# Altium footprint library 海关全向控制器主控板电路V2.PcbLib: 35 footprints (part 1 of 3)
Each footprint in its own frame and in the unit in brackets; x right, y up, seen from the top. Pads: shape width x height; smd on the part's side, far side on the other; paste and mask are expansions set on the pad; w line width, h text height; cw(c..) or ccw(c..) is an arc to the next point about the centre after c.
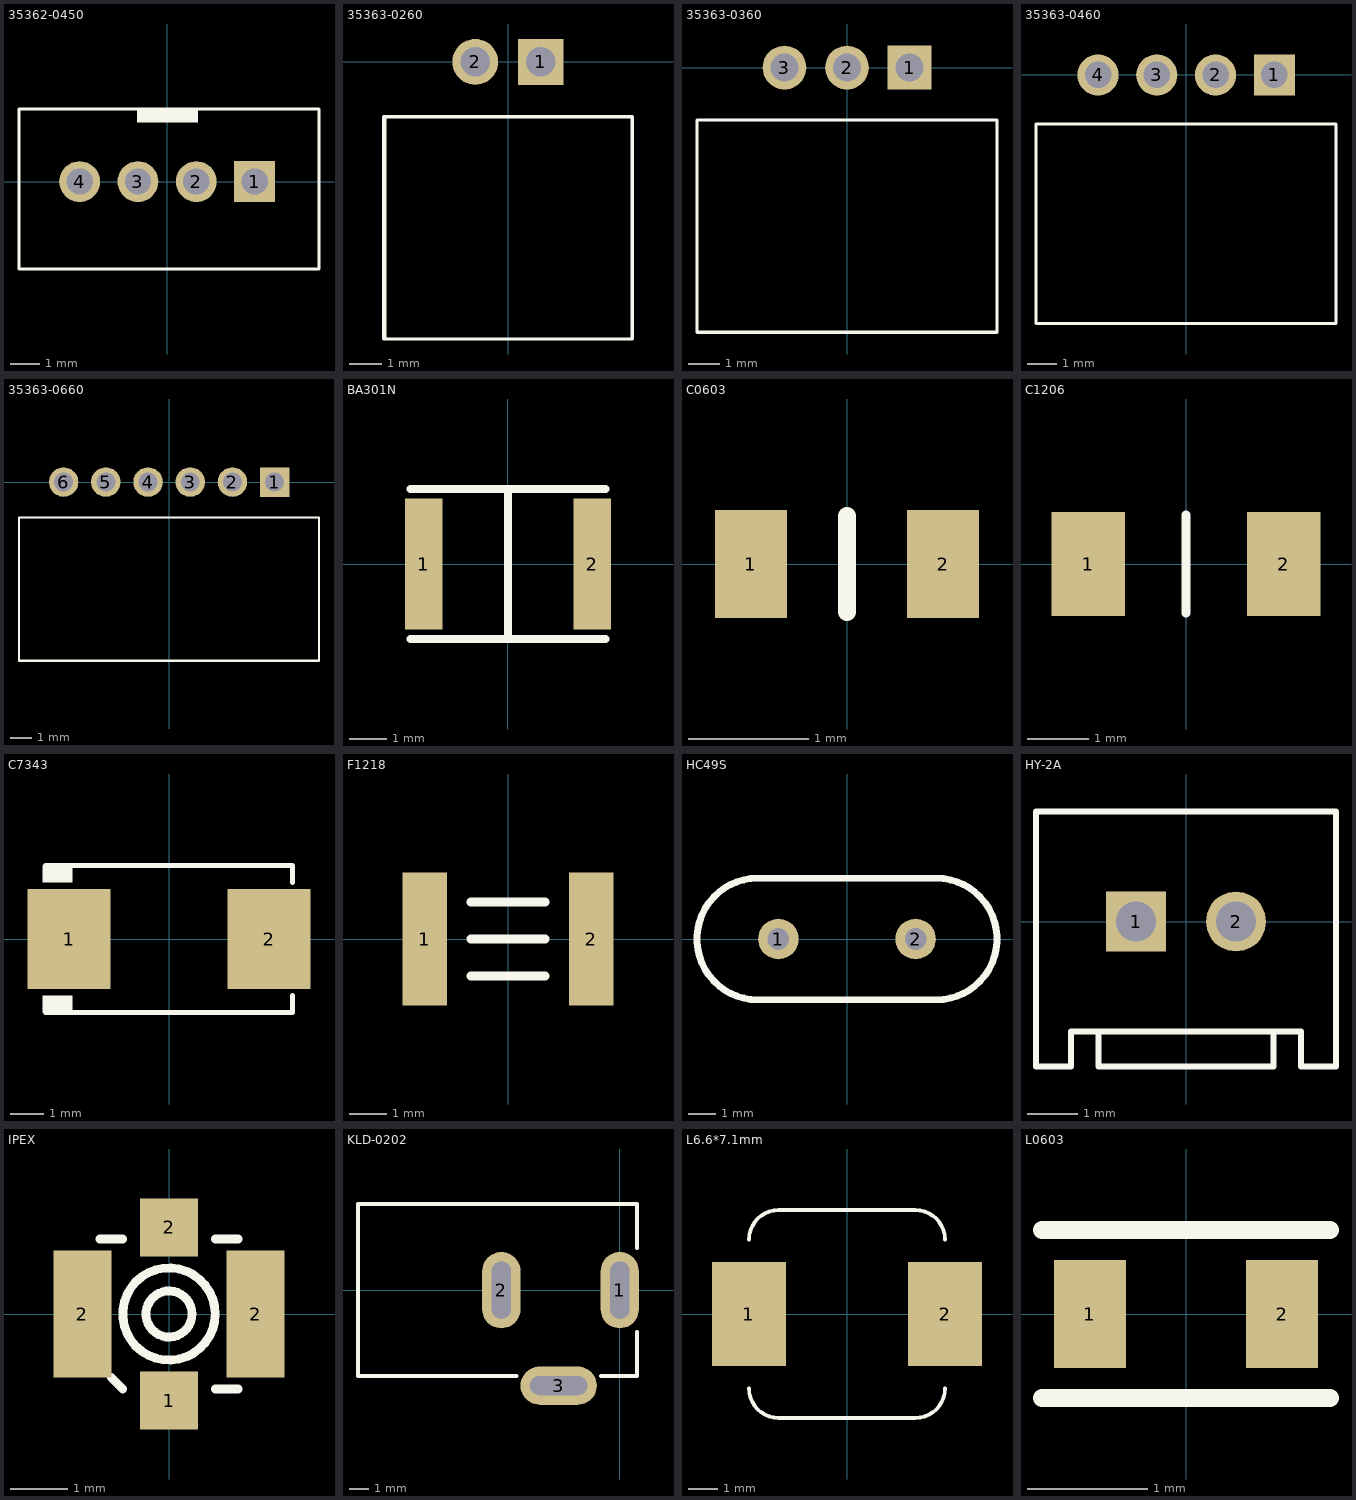
[diagram p0: the footprints below, top view; thin cyan lines are the x and y axes]

## 35362-0450 [mm]
pads (4):
  rect 1.4x1.4 hole 0.9: 1(3,0)
  round 1.4 hole 0.9: 2(1,0) 3(-1,0) 4(-3,0)
Top Overlay:
  rectangle: -1.026,2.032 1.057,2.494
  lines w0.105: -3.769,2.494 5.207,2.494 5.207,-3.004 -5.08,-3.004 -5.08,2.494 5.166,2.494
3D body: height 8.55, standoff -3.25, extent -5.134,-3.08 5.166,2.47

## 35363-0260 [mm]
pads (2):
  rect 1.4x1.4 hole 0.9: 1(1,0)
  round 1.4 hole 0.9: 2(-1,0)
Top Overlay:
  lines w0.105: -3.797,-8.465 -3.797,-1.673 ; -3.769,-8.465 -3.769,-1.673 3.797,-1.673 3.797,-8.465 -3.769,-8.465
3D body: height 5.75, standoff -2.95, extent -3.86,-8.517 3.84,1.983

## 35363-0360 [mm]
pads (3):
  rect 1.4x1.4 hole 0.9: 1(2,0)
  round 1.4 hole 0.9: 2(0,0) 3(-2,0)
Top Overlay:
  lines w0.105: -4.797,-8.465 -4.797,-1.673 4.797,-1.673 4.797,-8.465 -4.797,-8.465
3D body: height 5.75, standoff -2.95, extent -4.85,-8.517 4.85,1.983

## 35363-0460 [mm]
pads (4):
  rect 1.4x1.4 hole 0.9: 1(3,0)
  round 1.4 hole 0.9: 2(1,0) 3(-1,0) 4(-3,0)
Top Overlay:
  lines w0.105: -5.112,-8.465 -5.112,-1.673 5.099,-1.673 5.099,-8.465 -5.112,-8.465
3D body: height 5.75, standoff -2.95, extent -5.15,-8.517 5.15,1.983

## 35363-0660 [mm]
pads (6):
  rect 1.4x1.4 hole 0.9: 1(5,0)
  round 1.4 hole 0.9: 2(3,0) 3(1,0) 4(-1,0) 5(-3,0) 6(-5,0)
Top Overlay:
  lines w0.105: -7.112,-8.465 7.099,-8.465 7.099,-1.673 -7.112,-1.673 -7.112,-8.465
3D body: height 5.55, standoff -3.15, extent -7.15,-8.55 7.15,1.95

## BA301N [mm]
height 2.7
pads (2):
  rect 1x3.5 smd: 1(-2.25,0) 2(2.25,0)
Top Overlay:
  lines w0.203: -2.6,-2 2.6,-2 ; -2.6,2 2.6,2 ; 0,-2 0,2

## C0603 [mm]
height 0.8
pads (2):
  rect 0.6x0.9 smd: 1(-0.8,0) 2(0.8,0)
Top Overlay:
  lines w0.152: 0,-0.4 0,0.4
3D body: height 0.5, standoff 0, extent -0.8,-0.4 0.8,0.4

## C1206 [mm]
height 1.6
pads (2):
  rect 1.2x1.7 smd: 1(-1.6,0) 2(1.6,0)
Top Overlay:
  lines w0.152: 0,-0.8 0,0.8
3D body: height 1.25, standoff 0, extent -1.6,-0.8 1.6,0.8

## C7343 [mm] "100uF/25V"
height 4.2
pads (2):
  rect 2.5x3 smd: 1(-3,0) 2(3,0)
Top Overlay:
  rectangle: -3.8,1.7 -2.9,2.2
  rectangle: -3.8,-2.2 -2.9,-1.7
  lines w0.152: -3.7,-2.2 3.7,-2.2 3.7,-1.7 ; -3.7,2.2 3.7,2.2 3.7,1.7
3D body: height 2.9, standoff 0, extent -3.874,-2.15 3.875,2.15

## F1218 [mm]
height 0.42
pads (2):
  rect 1.2x3.6 smd: 1(-2.25,0) 2(2.25,0)
Top Overlay:
  lines w0.254: -1,-1 1,-1 ; -1,0 1,0 ; -1,1 1,1
3D body: height 0.42, standoff -0.02, extent -2.25,-1.65 2.25,1.65

## HC49S [mm]
height 3.6
pads (2):
  round 1.5 hole 0.8: 1(-2.54,0) 2(2.54,0)
Top Overlay:
  lines w0.254: -3.3,-2.25 cw(c-3.3,0) -3.3,2.25 3.3,2.25 cw(c3.3,0) 3.3,-2.25 -3.3,-2.25
3D body: height 3.63, standoff -1.97, extent -5.586,-2.325 5.586,2.347

## HY-2A [mm] "2P，直插，2.0mm间距，带锁座"
height 7.6
pads (2):
  rect 1.2x1.2 hole 0.8: 1(-1,0)
  round 1.2 hole 0.8: 2(1,0)
Top Overlay:
  lines w0.127: -1.75,-2.2 -1.75,-2.9 1.75,-2.9 1.75,-2.2 ; -3,-2.9 -2.3,-2.9 -2.3,-2.2 2.3,-2.2 2.3,-2.9 3,-2.9 3,2.2 -3,2.2 -3,-2.9
3D body: height 8.13, standoff -3.23, extent -3.05,-2.9 2.95,2.2

## IPEX [mm]
pads (4):
  rect 1x1 smd: 1(0,-1.5) 2(0,1.5)
  rect 1x2.2 smd: 2(-1.5,0) 2(1.5,0)
Top Overlay:
  circle w0.152: c0,0 r0.8
  circle w0.152: c0,0 r0.4
  lines w0.152: -1.2,1.3 -0.8,1.3 ; -1,-1.1 -0.8,-1.3 ; 0.8,-1.3 1.2,-1.3 ; 0.8,1.3 1.2,1.3
3D body: height 0.9, standoff -0.45, extent -1.45,-1.45 1.45,1.45

## KLD-0202 [mm]
pads (3):
  oval 2x4 hole 1 slot 3 at 90 deg: 1(0,0) 2(-6.2,0)
  oval 4x2 hole 1 slot 3 at 0 deg: 3(-3.2,-5)
Top Overlay:
  lines w0.2: -5.4,-4.5 -13.7,-4.5 -13.7,4.5 0.9,4.5 0.9,2.2 ; -1,-4.5 0.9,-4.5 0.9,-2.2
3D body: height 10.97, standoff -3.43, extent -13.586,-4.699 0.664,4.775

## L6.6*7.1mm [mm] "AMPI0630ED"
height 3
pads (2):
  rect 2.5x3.5 smd: 1(-3.3,0) 2(3.3,0)
Top Overlay:
  lines w0.127: -3.3,-2.5 ccw(c-2.3,-2.5) -2.3,-3.5 2.3,-3.5 ccw(c2.3,-2.5) 3.3,-2.5 ; -3.3,2.5 cw(c-2.3,2.5) -2.3,3.5 2.3,3.5 cw(c2.3,2.5) 3.3,2.5
3D body: height 3.13, standoff 0.05, extent -3.65,-3.35 3.65,3.35

## L0603 [mm]
pads (2):
  rect 0.6x0.9 smd: 1(-0.8,0) 2(0.8,0)
Top Overlay:
  lines w0.152: -1.2,-0.7 1.2,-0.7 ; -1.2,0.7 1.2,0.7
3D body: height 0.8, standoff 0, extent -0.8,-0.475 0.8,0.475